# Altium footprint library 电源接口.PcbLib: 1 footprints
Each footprint in its own frame and in the unit in brackets; x right, y up, seen from the top. Pads: shape width x height; smd on the part's side, far side on the other; paste and mask are expansions set on the pad; w line width, h text height; cw(c..) or ccw(c..) is an arc to the next point about the centre after c.
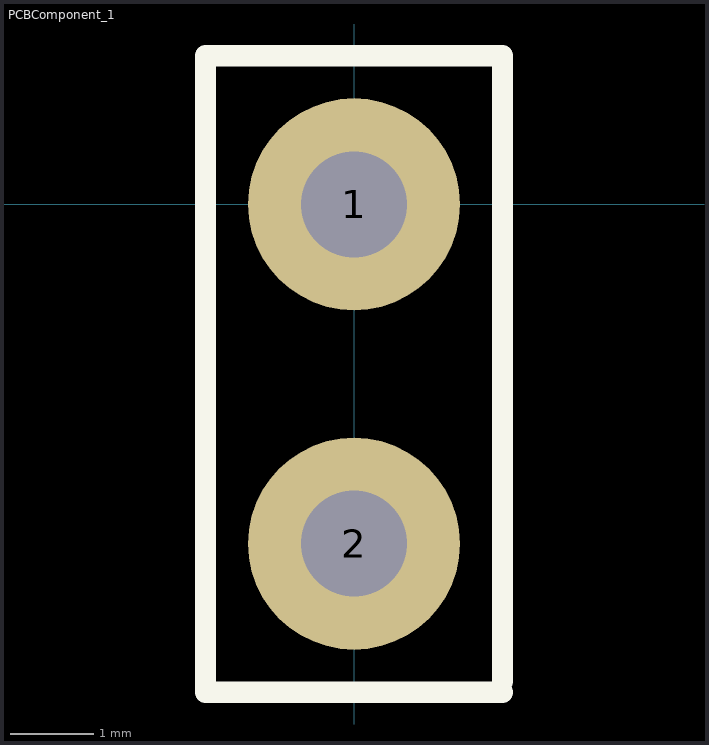
[diagram p0: the footprint, top view; thin cyan lines are the x and y axes]

## PCBComponent_1 [mil]
pads (2):
  round 100 hole 50 square: 1(0,0) 2(0,-160)
Top Overlay:
  lines w10: 70,-230 -70,-230 -70,70 70,70 70,-225